# EAGLE library part PIC10F200 (library SmallRoomLabs)
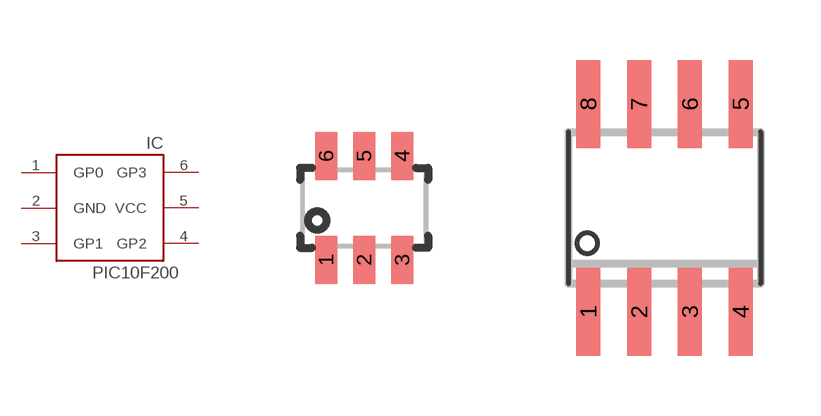
[diagram p20: symbol with the pads of SOT23-6; footprints SOT23-6, SOIC8]

Designator prefix IC

## PIC10F200-SOT23  [SOT23-6]
1  GP0
2  GND  pwr
3  GP1
4  GP2
5  VCC  pwr
6  GP3

## PIC10F200-SOIC  [SOIC8]
2  VCC  pwr
3  GP2
4  GP1
5  GP0
7  GND  pwr
8  GP3

## PIC10F200-DIPO  [DIL08-OFFSET]
Pads as for SOIC8

## Footprint SOT23-6 (pad centres in mm)
smd 0.55 x 1.2: 1 0.32,-1.3; 2 1.27,-1.3; 3 2.22,-1.3; 4 2.22,1.3; 5 1.27,1.3; 6 0.32,1.3

## Footprint SOIC8 (pad centres in mm)
smd 0.6 x 2.2: 1 -1.905,-2.6; 2 -0.635,-2.6; 3 0.635,-2.6; 4 1.905,-2.6; 5 1.905,2.6; 6 0.635,2.6; 7 -0.635,2.6; 8 -1.905,2.6

## Footprint DIL08-OFFSET (pad centres in mm)
drill 0.813 offset: 1 -3.81,-3.81; 2 -1.27,-3.81; 3 1.27,-3.81; 4 3.81,-3.81; 5 3.81,3.81; 6 1.27,3.81; 7 -1.27,3.81; 8 -3.81,3.81